# EAGLE library part CON-HIROSE-DF13_DF13-7P-1.25 (library PX4FMUv2.4)
DF13-7P 1.25mm Pitch Miniature Crimping Connector.
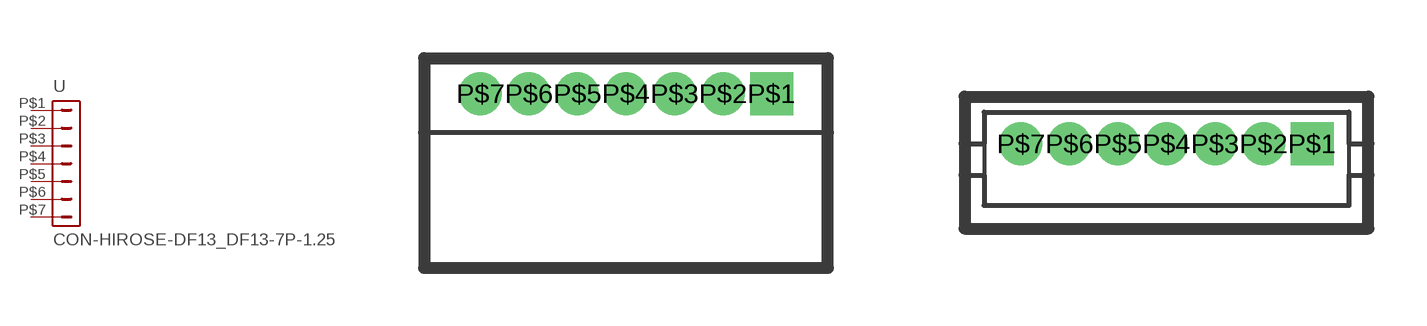
[diagram p2: symbol with the pads of CON-HIROSE-DF13_DF13-7P-1.25DS; footprints CON-HIROSE-DF13_DF13-7P-1.25DS, CON-HIROSE-DF13_DF13-7P-1.25DSA]

Designator prefix -

## CON-HIROSE-DF13_DF13-7P-1.25DS  [CON-HIROSE-DF13_DF13-7P-1.25DS]
P$1  1  pas
P$2  2  pas
P$3  3  pas
P$4  4  pas
P$5  5  pas
P$6  6  pas
P$7  7  pas

## CON-HIROSE-DF13_DF13-7P-1.25DSA  [CON-HIROSE-DF13_DF13-7P-1.25DSA]
Pads as for CON-HIROSE-DF13_DF13-7P-1.25DS

## CON-HIROSE-DF13_DF13-7P-1.25H  [CON-HIROSE-DF13_DF13A-7P-1.25H]
Pads as for CON-HIROSE-DF13_DF13-7P-1.25DS

## CON-HIROSE-DF13_DF13-7P-1.25V  [CON-HIROSE-DF13_DF13C-7P-1.25V]
1  1  pas
2  2  pas
3  3  pas
4  4  pas
5  5  pas
6  6  pas
7  7  pas

## Footprint CON-HIROSE-DF13_DF13-7P-1.25DS (pad centres in mm)
Single Row Right Angle Pin Header (Through hole)
drill 0.6 pad 1.016 square: P$1 3.75,0
drill 0.6 pad 1.016: P$2 2.5,0; P$3 1.25,0; P$4 0,0; P$5 -1.25,0; P$6 -2.5,0; P$7 -3.75,0

## Footprint CON-HIROSE-DF13_DF13-7P-1.25DSA (pad centres in mm)
Single Row Straight Pin Header (Through hole)
drill 0.6 pad 1.016 square: P$1 3.75,0
drill 0.6 pad 1.016: P$2 2.5,0; P$3 1.25,0; P$4 0,0; P$5 -1.25,0; P$6 -2.5,0; P$7 -3.75,0

## Footprint CON-HIROSE-DF13_DF13A-7P-1.25H (pad centres in mm)
Single Row Straight Pin Header (SMT)
smd 1.6 x 2.2: M$0 -6.1,2.4; M$1 6.1,2.4
smd 0.7 x 1.8: P$1 -3.75,-0.9; P$2 -2.5,-0.9; P$3 -1.25,-0.9; P$4 0,-0.9; P$5 1.25,-0.9; P$6 2.5,-0.9; P$7 3.75,-0.9

## Footprint CON-HIROSE-DF13_DF13C-7P-1.25V (pad centres in mm)
Single Row Straight Pin Header (SMT)
smd 0.7 x 1.8: 1 -3.75,0.9; 2 -2.5,0.9; 3 -1.25,0.9; 4 0,0.9; 5 1.25,0.9; 6 2.5,0.9; 7 3.75,0.9
smd 1.6 x 2.2: M$0 6.2,-1.8; M$1 -6.2,-1.8